# Altium footprint library 集成块.PcbLib: 75 footprints (part 4 of 5)
Each footprint in its own frame and in the unit in brackets; x right, y up, seen from the top. Pads: shape width x height; smd on the part's side, far side on the other; paste and mask are expansions set on the pad; w line width, h text height; cw(c..) or ccw(c..) is an arc to the next point about the centre after c.
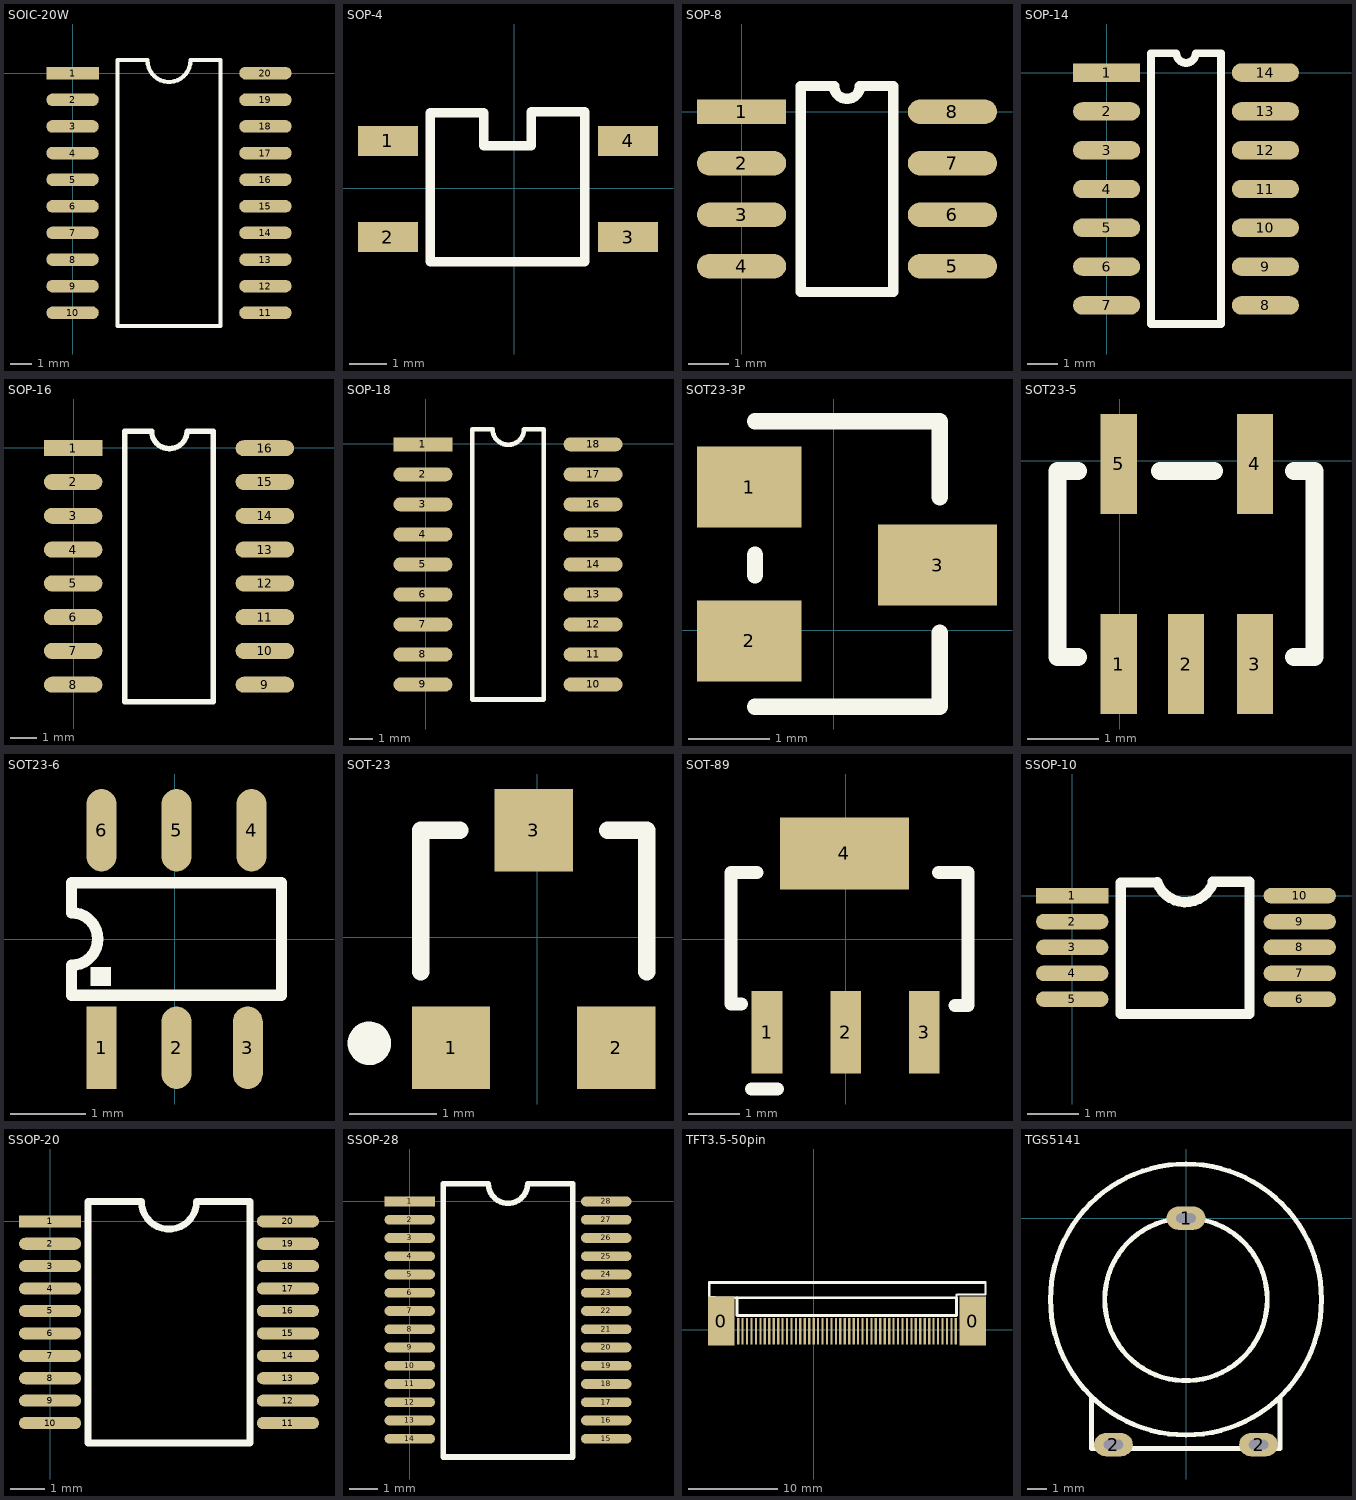
[diagram p3: the footprints below, top view; thin cyan lines are the x and y axes]

## SOIC-20W [mm]
pads (20):
  rect 2.5x0.6 smd: 1(0,0)
  oval 2.5x0.6 smd: 2(0,-1.27) 3(0,-2.54) 4(0,-3.81) 5(0,-5.08) 6(0,-6.35) 7(0,-7.62) 8(0,-8.89) 9(0,-10.16) 10(0,-11.43) 11(9.2,-11.43) 12(9.2,-10.16) 13(9.2,-8.89) 14(9.2,-7.62) 15(9.2,-6.35) 16(9.2,-5.08) 17(9.2,-3.81) 18(9.2,-2.54) 19(9.2,-1.27) 20(9.2,0)
Top Overlay:
  lines w0.2: 3.575,0.605 ccw(c4.6,0.605) 5.625,0.605 5.625,0.635 7.061,0.635 7.061,-12.065 2.139,-12.065 2.139,0.635 3.575,0.635 3.575,0.63

## SOP-4 [mm]
pads (4):
  rect 1.6x0.8 smd: 1(-3.378,1.27) 2(-3.378,-1.305) 3(3.047,-1.305) 4(3.047,1.27)
Top Overlay:
  lines w0.254: -0.814,1.193 -0.814,2.018 -2.239,2.018 -2.239,-1.957 1.886,-1.957 1.886,2.043 0.461,2.043 0.461,1.143 -0.814,1.143 -0.814,1.593

## SOP-8 [mm]
pads (8):
  rect 2.2x0.6 smd: 1(0,0)
  oval 2.2x0.6 smd: 2(0,-1.27) 3(0,-2.54) 4(0,-3.81) 5(5.2,-3.81) 6(5.2,-2.54) 7(5.2,-1.27) 8(5.2,0)
Top Overlay:
  lines w0.254: 1.989,-4.445 3.211,-4.445 ; 1.989,0.635 2.282,0.635 ccw(c2.6,0.635) 2.917,0.635 3.211,0.635 ; 2.219,0.635 1.457,0.635 1.457,-3.175 1.457,-4.445 3.743,-4.445 ; 2.981,0.635 3.743,0.635 3.743,-3.175 3.743,-4.42 3.718,-4.445

## SOP-14 [mm]
pads (14):
  rect 2.2x0.6 smd: 1(0,0)
  oval 2.2x0.6 smd: 2(0,-1.27) 3(0,-2.54) 4(0,-3.81) 5(0,-5.08) 6(0,-6.35) 7(0,-7.62) 8(5.2,-7.62) 9(5.2,-6.35) 10(5.2,-5.08) 11(5.2,-3.81) 12(5.2,-2.54) 13(5.2,-1.27) 14(5.2,0)
Top Overlay:
  lines w0.254: 1.989,0.635 2.282,0.635 ccw(c2.6,0.635) 2.917,0.635 3.211,0.635 ; 2.219,0.635 1.457,0.635 1.457,-3.175 1.457,-4.445 1.457,-6.985 1.457,-8.23 3.743,-8.23 3.743,-6.985 3.743,-5.715 3.743,-3.175 3.743,0.635 2.981,0.635

## SOP-16 [mm]
pads (16):
  rect 2.2x0.6 smd: 1(-0.019,-0.025)
  oval 2.2x0.6 smd: 2(-0.019,-1.295) 3(-0.019,-2.565) 4(-0.019,-3.835) 5(-0.019,-5.105) 6(-0.019,-6.375) 7(-0.019,-7.645) 8(-0.019,-8.915) 9(7.181,-8.915) 10(7.181,-7.645) 11(7.181,-6.375) 12(7.181,-5.105) 13(7.181,-3.835) 14(7.181,-2.565) 15(7.181,-1.295) 16(7.181,-0.025)
Top Overlay:
  lines w0.2: 2.931,0.56 2.931,0.585 ; 3.581,-0.04 cw(c3.581,0.61) 2.931,0.61 1.916,0.61 1.916,-9.55 5.246,-9.55 5.246,0.61 4.256,0.61 cw(c3.606,0.61) 3.606,-0.04

## SOP-18 [mm]
pads (18):
  rect 2.5x0.6 smd: 1(-0.12,-0.025)
  oval 2.5x0.6 smd: 2(-0.12,-1.295) 3(-0.12,-2.565) 4(-0.12,-3.835) 5(-0.12,-5.105) 6(-0.12,-6.375) 7(-0.12,-7.645) 8(-0.12,-8.915) 9(-0.12,-10.185) 10(7.08,-10.185) 11(7.08,-8.915) 12(7.08,-7.645) 13(7.08,-6.375) 14(7.08,-5.105) 15(7.08,-3.835) 16(7.08,-2.565) 17(7.08,-1.295) 18(7.08,-0.025)
Top Overlay:
  lines w0.2: 2.83,0.56 2.83,0.585 ; 3.48,-0.04 cw(c3.48,0.61) 2.83,0.61 1.965,0.61 1.965,-10.82 4.995,-10.82 4.995,0.61 4.155,0.61 cw(c3.505,0.61) 3.505,-0.04

## SOT23-3P [mm]
pads (3):
  rect 1.29x1 smd: 1(-1.046,1.775) 2(-1.046,-0.13)
  rect 1.47x1 smd: 3(1.286,0.81)
Top Overlay:
  lines w0.2: -0.973,-0.943 1.313,-0.943 1.313,-0.028 ; -0.973,0.683 -0.973,0.937 ; -0.973,2.588 1.313,2.588 1.313,1.648

## SOT23-5 [mil]
pads (5):
  rect 20x55.12 smd: 1(-0.5,-112.12) 2(36.5,-112.12) 3(74.5,-112.12) 4(74.5,-1.88) 5(-0.5,-1.88)
Top Overlay:
  lines w10: -22.95,-108.18 -34.37,-108.18 -34.37,-5.82 -22.95,-5.82 ; 22.33,-5.82 51.85,-5.82 ; 95.95,-108.18 107.37,-108.18 107.37,-5.82 95.95,-5.82

## SOT23-6 [mm]
pads (6):
  rect 0.4x1.1 smd: 1(-0.975,-1.45)
  oval 0.4x1.1 smd: 2(0.025,-1.45) 3(0.975,-1.45) 4(1.025,1.45) 5(0.025,1.45) 6(-0.975,1.45)
Top Overlay:
  rectangle: -1.125,-0.625 -0.85,-0.375
  lines w0.15: -1.375,-0.75 -1.375,-0.35 ccw(c-1.375,0) -1.375,0.35 -1.375,0.75 1.425,0.75 1.425,-0.75 -1.375,-0.75

## SOT-23 [mm]
pads (3):
  rect 0.9x0.95 smd: 1(-0.991,-1.27) 2(0.909,-1.27) 3(-0.041,1.23)
Top Overlay:
  circle w0.25: c-1.93,-1.219 r0.125
  lines w0.2: -1.341,-0.395 -1.341,1.23 -0.891,1.23 ; 0.809,1.23 1.259,1.23 1.259,-0.395
3D body: height 1.2, standoff 0, extent -1.465,-1.496 1.435,1.304

## SOT-89 [mm]
pads (4):
  rect 0.6x1.6 smd: 1(-1.524,-1.803) 2(0.001,-1.803) 3(1.526,-1.803)
  rect 2.5x1.4 smd: 4(-0.024,1.672)
Top Overlay:
  lines w0.254: -2.024,-1.253 -2.224,-1.253 -2.224,1.297 -1.724,1.297 ; -1.824,-2.903 -1.324,-2.903 ; 1.801,1.297 2.376,1.297 2.376,-1.278 2.126,-1.278

## SSOP-10 [mm]
pads (10):
  rect 1.4x0.3 smd: 1(0,0)
  oval 1.4x0.3 smd: 2(0,-0.5) 3(0,-1) 4(0,-1.5) 5(0,-2) 6(4.4,-2) 7(4.4,-1.5) 8(4.4,-1) 9(4.4,-0.5) 10(4.4,0)
Top Overlay:
  lines w0.2: 1.6,0.254 0.94,0.254 0.94,-2.286 3.429,-2.286 3.429,0.273 2.718,0.273 ; 1.644,0.261 ccw(c2.187,0.45) 2.718,0.229

## SSOP-20 [mm]
pads (20):
  rect 1.8x0.35 smd: 1(0,0)
  oval 1.8x0.35 smd: 2(0,-0.65) 3(0,-1.3) 4(0,-1.95) 5(0,-2.6) 6(0,-3.25) 7(0,-3.9) 8(0,-4.55) 9(0,-5.2) 10(0,-5.85) 11(6.9,-5.85) 12(6.9,-5.2) 13(6.9,-4.55) 14(6.9,-3.9) 15(6.9,-3.25) 16(6.9,-2.6) 17(6.9,-1.95) 18(6.9,-1.3) 19(6.9,-0.65) 20(6.9,0)
Top Overlay:
  lines w0.2: 1.1,0.575 1.1,-6.425 5.8,-6.425 5.8,0.575 ; 2.65,0.575 ccw(c3.45,0.575) 4.25,0.575
  lines w0.203: 1.1,0.575 2.65,0.575 ; 4.25,0.575 5.8,0.575

## SSOP-28 [mm]
pads (28):
  rect 1.8x0.35 smd: 1(0,0)
  oval 1.8x0.35 smd: 2(0,-0.65) 3(0,-1.3) 4(0,-1.95) 5(0,-2.6) 6(0,-3.25) 7(0,-3.9) 8(0,-4.55) 9(0,-5.2) 10(0,-5.85) 11(0,-6.5) 12(0,-7.15) 13(0,-7.8) 14(0,-8.45) 15(7,-8.45) 16(7,-7.8) 17(7,-7.15) 18(7,-6.5) 19(7,-5.85) 20(7,-5.2) 21(7,-4.55) 22(7,-3.9) 23(7,-3.25) 24(7,-2.6) 25(7,-1.95) 26(7,-1.3) 27(7,-0.65) 28(7,0)
Top Overlay:
  lines w0.2: 5.8,-9.1 1.2,-9.1 1.2,0.635 2.8,0.635 ccw(c3.5,0.635) 4.2,0.635 5.8,0.635 5.8,-9.075

## TFT3.5-50pin [mm]
pads (52):
  rect 3x5.5 smd: 0(-10.388,0.956) 0(17.889,0.956)
  rect 0.25x3 smd: 1(-8.501,-0.203) 2(-8.001,-0.203) 3(-7.501,-0.203) 4(-7.001,-0.203) 5(-6.501,-0.203) 6(-6.001,-0.203) 7(-5.501,-0.203) 8(-5.001,-0.203) 9(-4.501,-0.203) 10(-4.001,-0.203) 11(-3.501,-0.203) 12(-3.001,-0.203) 13(-2.501,-0.203) 14(-2.001,-0.203) 15(-1.501,-0.203) 16(-1.001,-0.203) 17(-0.501,-0.203) 18(-0.001,-0.203) 19(0.499,-0.203) 20(0.999,-0.203) 21(1.499,-0.203) 22(1.999,-0.203) 23(2.499,-0.203) 24(2.999,-0.203) 25(3.499,-0.203) 26(3.999,-0.203) 27(4.499,-0.203) 28(4.999,-0.203) 29(5.499,-0.203) 30(5.999,-0.203) 31(6.499,-0.203) 32(6.999,-0.203) 33(7.499,-0.203) 34(7.999,-0.203) 35(8.499,-0.203) 36(8.999,-0.203) 37(9.499,-0.203) 38(9.999,-0.203) 39(10.499,-0.203) 40(10.999,-0.203) 41(11.502,-0.203) 42(12.002,-0.203) 43(12.502,-0.203) 44(13.002,-0.203) 45(13.502,-0.203) 46(14.002,-0.203) 47(14.502,-0.203) 48(15.002,-0.203) 49(15.502,-0.203) 50(16.002,-0.203)
Top Overlay:
  lines w0.25: 16.078,3.597 16.078,3.886 16.154,3.962 19.329,3.962 19.329,5.297
  lines w0.305: -11.751,3.601 -11.751,5.301 ; -11.751,5.297 19.329,5.297 ; -11.726,3.601 -11.126,3.601 ; -11.151,3.597 16.078,3.597 16.078,1.591 -8.61,1.591 ; -8.626,1.601 -8.626,3.607

## TGS5141 [mm]
pads (3):
  oval 2x1.2 hole 0.5 slot 1 at 0 deg: 1(0,0) 2(-3.75,-11.7) 2(3.75,-11.7)
Top Overlay:
  circle w0.254: c0,-4.2 r7
  circle w0.254: c0,-4.2 r4.2
  lines w0.25: -4.875,-9.25 -4.875,-11.9 4.85,-11.9 4.85,-9.275